# EAGLE library part 78601/9C (library detector)
MuRata 78601/9C
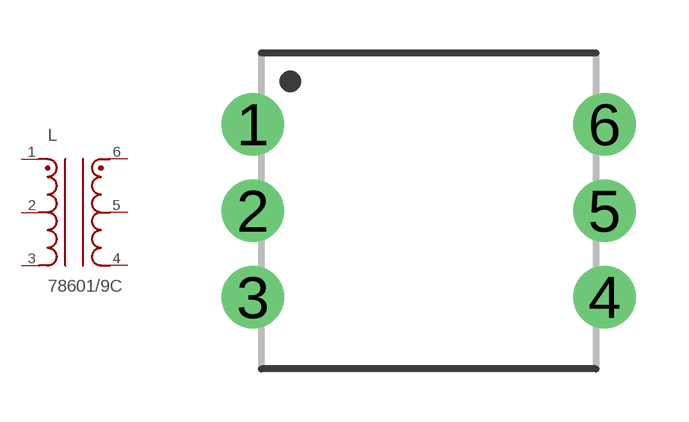
[diagram p0: symbol with the pads of 78601/9C; footprint 78601/9C]

Designator prefix L

## 78601/9C  [78601/9C]
1  1  pas
2  2  pas
3  3  pas
4  4  pas
5  5  pas
6  6  pas

## Footprint 78601/9C (pad centres in mm)
6-pins E13/7/4 coil former (EF12.6) Source: Ferroxcube Ecore.pdf
drill 1 pad 1.778: 1 -5,2.46; 2 -5,0; 3 -5,-2.46; 4 5,-2.46; 5 5,0; 6 5,2.46